# EAGLE library part MSP430G2231 (library untitled)
Ultra Low Power Mixed signal microcontroller
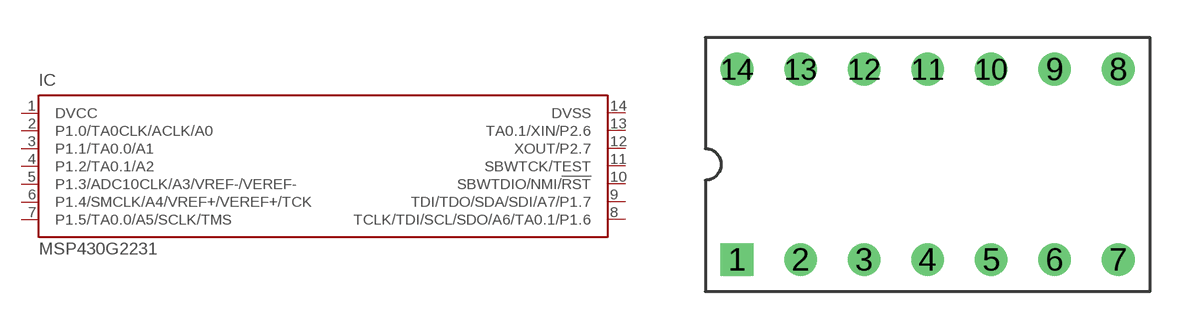
[diagram p41: symbol with the pads of DIP14; footprint DIP14]

Designator prefix IC

## MSP430G2231  [DIP14]
1  DVCC  pwr
2  P1.0/TA0CLK/ACLK/A0
3  P1.1/TA0.0/A1
4  P1.2/TA0.1/A2
5  P1.3/ADC10CLK/A3/VREF-/VEREF-
6  P1.4/SMCLK/A4/VREF+/VEREF+/TCK
7  P1.5/TA0.0/A5/SCLK/TMS
8  TCLK/TDI/SCL/SDO/A6/TA0.1/P1.6
9  TDI/TDO/SDA/SDI/A7/P1.7
10  SBWTDIO/NMI/!RST  in
11  SBWTCK/TEST  in
12  XOUT/P2.7
13  TA0.1/XIN/P2.6
14  DVSS  pwr

## Footprint DIP14 (pad centres in mm)
drill 0.8 square: 1 -7.62,-3.81
drill 0.8 round: 2 -5.08,-3.81; 3 -2.54,-3.81; 4 0,-3.81; 5 2.54,-3.81; 6 5.08,-3.81; 7 7.62,-3.81; 8 7.62,3.81; 9 5.08,3.81; 10 2.54,3.81; 11 0,3.81; 12 -2.54,3.81; 13 -5.08,3.81; 14 -7.62,3.81